# EAGLE library part RESISTORX4 (library Resistors&Capacitors)
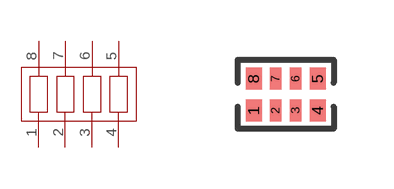
[diagram p0: symbol with the pads of RX4_0402; footprint RX4_0402]

Designator prefix -

## RESISTORX4  [RX4_0402]
1  1
2  2
3  3
4  4
5  5
6  6
7  7
8  8

## Footprint RX4_0402 (pad centres in mm)
smd 0.4 x 0.55: 1 0.331,0.381; 4 1.931,0.381; 5 1.931,1.181; 8 0.331,1.181
smd 0.3 x 0.55: 2 0.881,0.381; 3 1.381,0.381; 6 1.381,1.181; 7 0.881,1.181